# Altium footprint library Components.PcbLib: 155 footprints (part 7 of 10)
Each footprint in its own frame and in the unit in brackets; x right, y up, seen from the top. Pads: shape width x height; smd on the part's side, far side on the other; paste and mask are expansions set on the pad; w line width, h text height; cw(c..) or ccw(c..) is an arc to the next point about the centre after c.
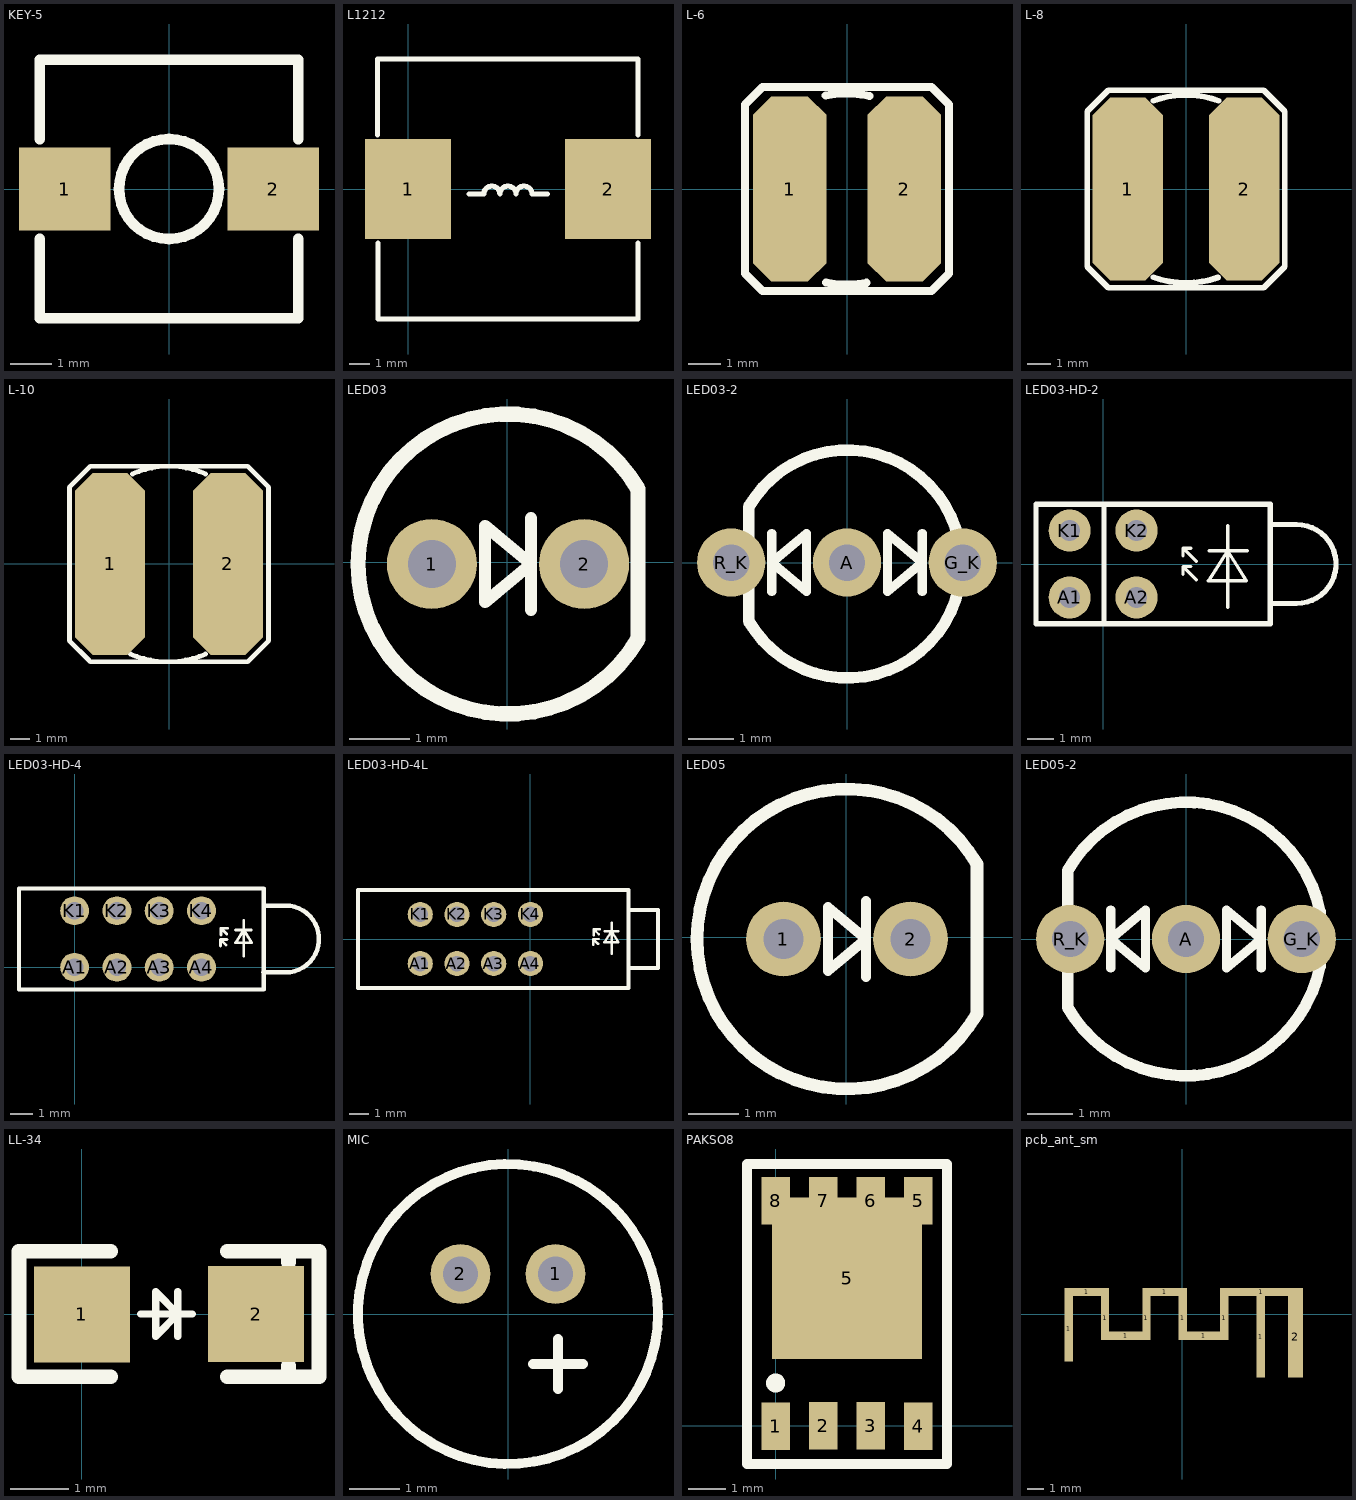
[diagram p6: the footprints below, top view; thin cyan lines are the x and y axes]

## KEY-5 [mm] "6*6*4.5mm"
pads (2):
  rect 2.2x2 smd: 1(-2.5,0) 2(2.5,0)
Top Overlay:
  circle w0.254: c0,0 r1.2
  lines w0.254: -3.1,-1.2 -3.1,-3.1 3.1,-3.1 3.1,-1.2 ; -3.1,1.2 -3.1,3.1 3.1,3.1 3.1,1.2

## L1212 [mm] "10mm"
pads (2):
  rect 4.3x5 smd: 1(0,0) 2(10,0)
Top Overlay:
  lines w0.254: -1.524,2.7 -1.524,6.5 ; -1.5,-2.7 -1.5,-6.5 11.5,-6.5 11.5,-2.7 ; -1.5,6.5 11.5,6.5 11.5,2.7 ; 3.048,-0.254 3.789,-0.254 cw(c4.191,-0.254) 4.593,-0.254 cw(c4.994,-0.254) 5.396,-0.254 cw(c5.797,-0.254) 6.199,-0.254 6.985,-0.254

## L-6 [mm]
height 4
pads (2):
  oct 2.3x5.8 smd: 1(-1.8,0) 2(1.8,0)
Top Overlay:
  lines w0.254: -0.667,2.925 cw(c0,0) 0.704,2.916 ; -0.656,-2.927 ccw(c0,0) 0.608,-2.938 ; -3.2,-2.65 -3.2,2.65 -2.65,3.2 2.65,3.2 3.2,2.65 3.2,-2.65 2.65,-3.2 -2.65,-3.2 -3.2,-2.65

## L-8 [mm]
height 4
pads (2):
  oct 3x7.8 smd: 1(-2.48,0) 2(2.48,0)
Top Overlay:
  lines w0.254: -1.383,-3.753 ccw(c0,0) 1.351,-3.765 ; -1.383,3.753 cw(c0,0) 1.383,3.753 ; -4.2,-3.3 -3.3,-4.2 3.3,-4.2 4.2,-3.3 4.2,3.3 3.3,4.2 -3.3,4.2 -4.2,3.3 -4.2,-3.3

## L-10 [mm]
height 4
pads (2):
  oct 3.65x9.5 smd: 1(-3.075,0) 2(3.075,0)
Top Overlay:
  lines w0.254: -2,-4.7 ccw(c-0.05,-0.15) 1.9,-4.7 ; -1.9,4.7 cw(c0,0.387) 1.9,4.7 ; -5.2,-4 -5.2,4 -4.1,5.1 4.1,5.1 5.2,4 5.2,-4 4.1,-5.1 -4.1,-5.1 -4.2,-5 -5.2,-4

## LED03 [mm] "LED 3mm"
pads (2):
  round 1.5 hole 0.8: 1(-1.259,-0.031) 2(1.281,-0.031)
Top Overlay:
  lines w0.203: 0.392,-0.793 0.392,0.731 ; -0.37,-0.666 0.392,-0.031 -0.37,0.604 -0.37,-0.666
  lines w0.254: 2.176,-1.281 cw(c0.011,-0.031) 2.176,1.219 2.176,-1.281

## LED03-2 [mm]
pads (3):
  round 1.5 hole 0.8: A(-0.001,0.001) G_K(2.539,0.001) R_K(-2.541,0.001)
Top Overlay:
  lines w0.203: -1.652,-0.634 -1.652,0.636 ; 1.65,-0.634 1.65,0.636 ; -1.652,0.001 -0.89,-0.634 -0.89,0.636 -1.652,0.001 ; 0.888,-0.634 1.65,0.001 0.888,0.636 0.888,-0.634
  lines w0.254: -2.159,-1.281 ccw(c0.006,-0.031) -2.159,1.219 -2.159,-1.281

## LED03-HD-2 [mm] "led holder 3mm 2"
pads (4):
  round 1.6 hole 0.8: A1(-1.27,-1.27) A2(1.27,-1.27) K1(-1.27,1.27) K2(1.27,1.27)
Top Overlay:
  lines w0.127: 3.037,-0.397 3.037,-0.097 ; 3.037,0.303 3.037,0.603 ; 3.337,-0.097 3.037,-0.097 ; 3.337,0.603 3.037,0.603 ; 3.537,-0.597 3.037,-0.097 ; 3.537,0.103 3.037,0.603 ; 4.034,0.503 5.481,0.503 ; 4.736,-1.639 4.736,1.461 ; 4,-0.64 5.448,-0.64 4.736,0.503 4,-0.64
  lines w0.2: 0.03,-2.27 0.03,2.27 ; 6.35,-1.5 7.35,-1.5 ccw(c7.35,0) 7.35,1.5 6.35,1.5 ; -2.55,-2.27 6.35,-2.27 6.35,2.27 -2.55,2.27 -2.55,-2.27

## LED03-HD-4 [mm] "led holder 3mm 2"
pads (8):
  round 1.3 hole 0.8: A1(0,0) A2(1.9,0) A3(3.8,0) A4(5.7,0) K1(0,2.54) K2(1.9,2.54) K3(3.8,2.54) K4(5.7,2.54)
Top Overlay:
  lines w0.127: 6.547,0.953 6.547,1.253 ; 6.58,1.453 6.58,1.753 ; 6.8,1 6.547,1.253 ; 6.834,1.5 6.58,1.753 ; 6.847,1.253 6.547,1.253 ; 6.88,1.753 6.58,1.753 ; 7.234,1.673 7.934,1.673 ; 7.6,0.5 7.6,2.1 ; 7.231,1.1 7.957,1.1 7.6,1.673 7.231,1.1
  lines w0.2: 8.48,-0.23 9.48,-0.23 ccw(c9.48,1.27) 9.48,2.77 8.5,2.77 ; 8.49,3.54 8.49,-1 1.88,-1 -2.5,-1 -2.5,3.54 1.88,3.54 8.5,3.54

## LED03-HD-4L [mm] "led holder 3mm 2"
pads (8):
  round 1.3 hole 0.8: A1(-5.7,-1.27) A2(-3.8,-1.27) A3(-1.9,-1.27) A4(0,-1.27) K1(-5.7,1.27) K2(-3.8,1.27) K3(-1.9,1.27) K4(0,1.27)
Top Overlay:
  lines w0.127: 3.247,-0.3 3.247,0 ; 3.28,0.2 3.28,0.5 ; 3.5,-0.253 3.247,0 ; 3.534,0.247 3.28,0.5 ; 3.547,0 3.247,0 ; 3.58,0.5 3.28,0.5 ; 3.834,0.403 4.534,0.403 ; 4.2,-0.77 4.2,0.83 ; 3.831,-0.17 4.2,0.403 4.557,-0.17 3.831,-0.17
  lines w0.2: 5.08,-1.5 6.6,-1.5 6.6,1.5 5.1,1.5 ; -8.92,-2.54 -8.92,2.54 -3.82,2.54 5.08,2.54 5.08,-2.54 -3.82,-2.54 -8.92,-2.54

## LED05 [mm]
pads (2):
  round 1.5 hole 0.8: 1(-1.259,-0.031) 2(1.281,-0.031)
Top Overlay:
  lines w0.203: 0.392,-0.793 0.392,0.731 ; -0.37,-0.666 -0.37,0.604 0.392,-0.031 -0.37,-0.666
  lines w0.254: 2.609,-1.531 cw(c0.011,-0.031) 2.609,1.469 2.609,-1.531

## LED05-2 [mm]
pads (3):
  round 1.5 hole 0.8: A(-0.001,0.001) G_K(2.539,0.001) R_K(-2.541,0.001)
Top Overlay:
  lines w0.203: -1.652,-0.634 -1.652,0.636 ; 1.65,-0.634 1.65,0.636 ; -1.652,0.001 -0.89,-0.634 -0.89,0.636 -1.652,0.001 ; 0.888,-0.634 1.65,0.001 0.888,0.636 0.888,-0.634
  lines w0.254: -2.599,-1.499 ccw(c-0.001,0.001) -2.599,1.501 -2.599,-1.499

## LL-34 [mm] "3.5*1.5mm"
pads (2):
  rect 1.65x1.65 smd: 1(0.003,-0.008) 2(3,0)
Top Overlay:
  lines w0.127: 1.016,0 1.905,0 ; 1.651,-0.381 1.651,0.381 ; 1.27,-0.381 1.27,0.381 1.651,0 1.27,-0.381
  lines w0.254: 0.5,-1.08 -1.08,-1.08 -1.08,1.08 0.5,1.08 ; 2.5,-1.08 4.064,-1.08 ; 2.5,1.08 4.08,1.08 4.08,-1.08 ; 3.556,-1.08 3.556,-0.889 ; 3.556,0.889 3.556,1.08

## MIC [mm] "MIC 6*5mm"
pads (2):
  round 1.2 hole 0.7: 1(0.95,0.8) 2(-0.95,0.8)
Top Overlay:
  circle w0.2: c0,0 r3
  lines w0.2: 0.5,-1 1.5,-1 ; 1,-1.5 1,-0.5

## PAKSO8 [mm]
pads (9):
  rect 0.76x1.27 smd: 1(0.003,-0.008) 2(1.27,0) 3(2.54,0) 4(3.81,-0.008) 5(3.81,6) 6(2.54,6) 7(1.27,6) 8(0,6)
  rect 4x4.3 smd: 5(1.905,3.937)
Top Overlay:
  circle w0.254: c0,1.143 r0.127
  lines w0.254: -0.762,-1.016 -0.762,6.985 -0.635,6.985 4.572,6.985 4.572,-1.016 -0.762,-1.016

## pcb_ant_sm [mm]
pads (12):
  rect 0.5x3.94 smd: 1(-6.85,-0.87)
  rect 2.7x0.5 smd: 1(-5.75,1.35) 1(-1.05,1.35)
  rect 0.5x2.64 smd: 1(-4.65,-0.22) 1(-2.15,-0.22) 1(0.05,-0.22) 1(2.55,-0.22)
  rect 2x0.5 smd: 1(-3.4,-1.29) 1(1.3,-1.29)
  rect 0.5x4.9 smd: 1(4.75,-1.35)
  rect 5x0.5 smd: 1(4.8,1.348)
  rect 0.9x4.9 smd: 2(6.85,-1.35)